# Altium schematic symbol library IC_Maxim_Electronics_MAX11645EUA+.SchLib: 1 symbol
Pins are listed as number, name and electrical type; pins without a type are passive.

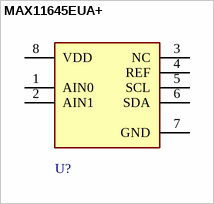
[diagram p0: symbol MAX11645EUA+]

## MAX11645EUA+
designator U?  (value not drawn)
Part Number: MAX11645EUA+; ComponentLink1Description: helpURL; ComponentLink1URL: https://www.maximintegrated.com/en/products/analog/data-converters/analog-to-digital-converters/MAX11645.html; Supplier 1: Mouser; Supplier Part Number 1: https://www.mouser.com/ProductDetail/Maxim-Integrated/MAX11645EUA%2B?qs=Bakm8ERcljromEtBj8vNxg%3D%3D
footprint Maxim_Electronics_8-uMAX_0
pins: 1 AIN0, 2 AIN1, 3 NC, 4 REF, 5 SCL, 6 SDA, 7 GND, 8 VDD